# EAGLE library part 1602A-3 (library 1602a-3-lcd)
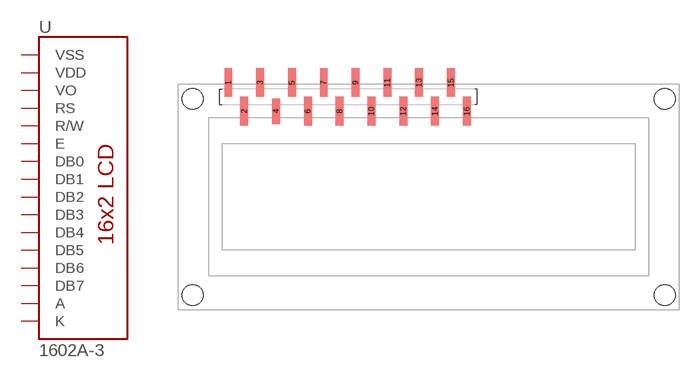
[diagram p0: symbol with the pads of 1602A-3-SMD; footprint 1602A-3-SMD]

Designator prefix -

## 1602A-3SMD  [1602A-3-SMD]
1  VSS  pwr
2  VDD  pwr
3  VO
4  RS  in
5  R/W  in
6  E  in
7  DB0
8  DB1
9  DB2
10  DB3
11  DB4
12  DB5
13  DB6
14  DB7
15  A  pwr
16  K  pwr

## Footprint 1602A-3-SMD (pad centres in mm)
smd 1.27 x 4.564: 1 -32,18.282; 2 -29.46,13.718; 3 -26.92,18.282; 5 -21.84,18.282; 6 -19.3,13.718; 7 -16.76,18.282; 8 -14.22,13.718; 9 -11.68,18.282; 10 -9.14,13.718; 11 -6.6,18.282; 12 -4.06,13.718; 13 -1.52,18.282; 14 1.02,13.718; 15 3.56,18.282; 16 6.1,13.718
smd 1.27 x 4.064: 4 -24.38,13.718
hole 3.3 at -37.7,15.7
hole 3.3 at 37.7,15.7
hole 3.3 at 37.7,-15.7
hole 3.3 at -37.7,-15.7